# EAGLE library part BMP280 (library ruark2)
Pressure Sensor 4.35PSI ~ 15.95PSI (30kPa ~ 110kPa) Absolute 16b 8-SMD
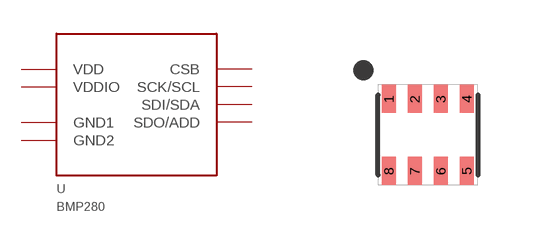
[diagram p111: symbol with the pads of BME280; footprint BME280]

Designator prefix U

## BMP280 (PARTNO: 828-1064-1-ND)  [BME280]
1  GND1
2  CSB
3  SDI/SDA
4  SCK/SCL
5  SDO/ADD
6  VDDIO
7  GND2
8  VDD

## Footprint BME280 (pad centres in mm)
smd 0.35 x 0.7: 1 -0.975,0.9; 2 -0.325,0.9; 3 0.325,0.9; 4 0.975,0.9; 5 0.975,-0.9; 6 0.325,-0.9; 7 -0.325,-0.9; 8 -0.975,-0.9